# Altium schematic symbol library WR-HDMI.SchLib: 7 symbols
Pins are listed as number, name and electrical type; pins without a type are passive.

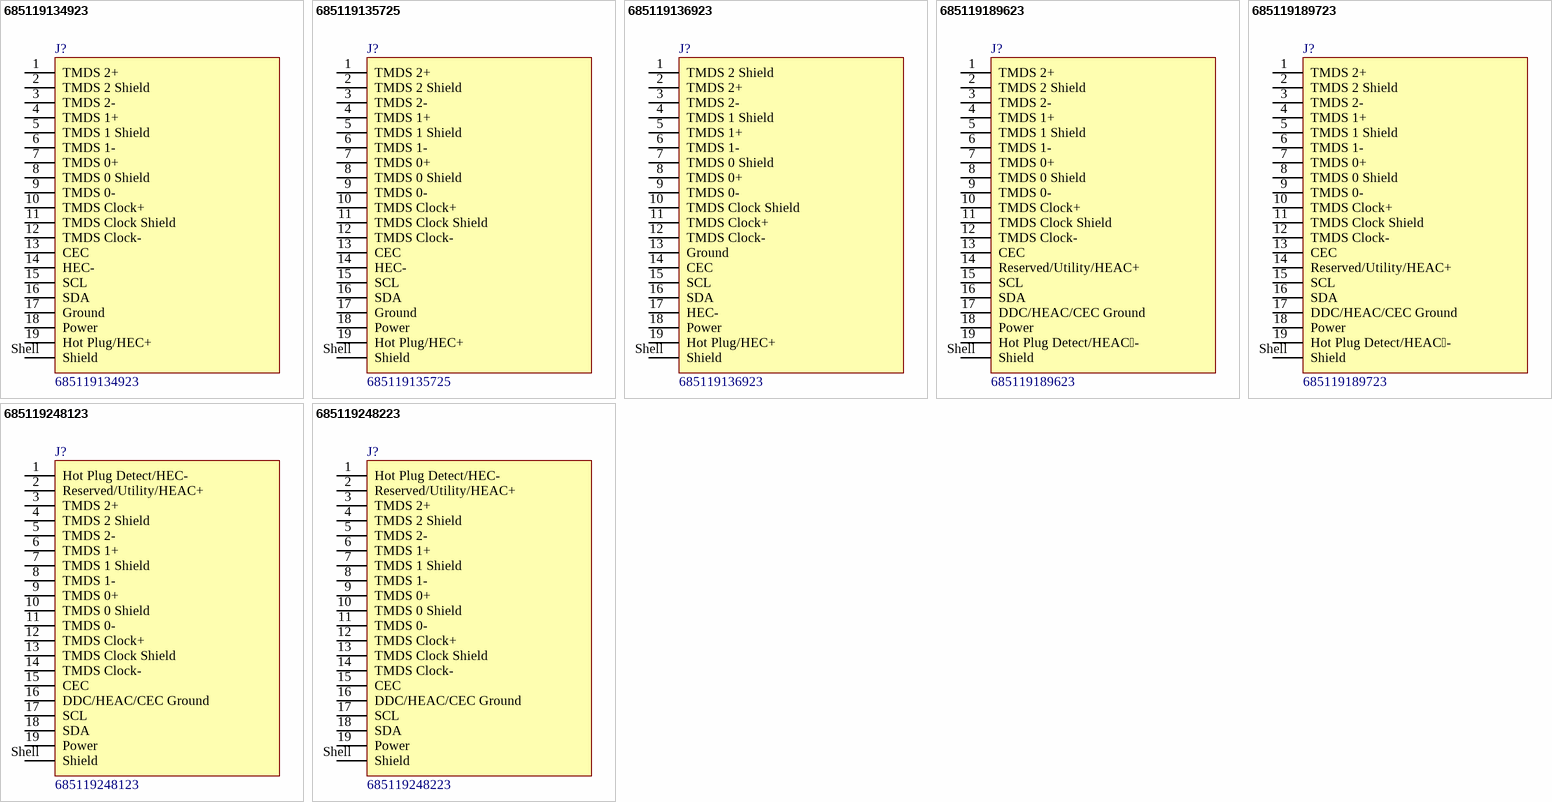
[diagram p0: symbols 685119134923 to 685119248223]

## 685119134923
designator J?
WR-COM HDMI Receptacle Horizontal; Manufacturer: Wurth Elektronik; Match Code: WR-HDMI; Working Voltage: 40V (AC); Manufacturer Part Number: 685119134923; Category: Input/Output Connector; ComponentLink1Description: Website Link; ComponentLink1URL: https://www.we-online.com/redexpert/article/685119134923?ad; ComponentLink2Description: Datasheet Link; ComponentLink2URL: https://www.we-online.com/redexpert/spec/685119134923?ad; Mount: Surface Mount; Min Operating Temperature: -25°C; Max Operating Temperature: 85°C; Packaging: Tape and Reel; Application: HDMI; Gender: Receptacle; Number of Pins: 19; Orientation: Horizontal
footprint 685119134923
pins: 1 TMDS 2+, 2 TMDS 2 Shield, 3 TMDS 2-, 4 TMDS 1+, 5 TMDS 1 Shield, 6 TMDS 1-, 7 TMDS 0+, 8 TMDS 0 Shield, 9 TMDS 0-, 10 TMDS Clock+, 11 TMDS Clock Shield, 12 TMDS Clock-, 13 CEC, 14 HEC-, 15 SCL, 16 SDA, 17 Ground, 18 Power, 19 Hot Plug/HEC+, Shell Shield

## 685119135725
designator J?
WR-COM HDMI Receptacle Horizontal; Manufacturer: Wurth Elektronik; Match Code: WR-HDMI; Working Voltage: 40V (AC); Manufacturer Part Number: 685119135725; Category: Input/Output Connector; ComponentLink1Description: Website Link; ComponentLink1URL: https://www.we-online.com/redexpert/article/685119135725?ad; ComponentLink2Description: Datasheet Link; ComponentLink2URL: https://www.we-online.com/redexpert/spec/685119135725?ad; Mount: Surface Mount; Min Operating Temperature: -25°C; Max Operating Temperature: 85°C; Packaging: Tray; Application: HDMI; Gender: Receptacle; Number of Pins: 19; Orientation: Horizontal
footprint 685119135725
pins: 1 TMDS 2+, 2 TMDS 2 Shield, 3 TMDS 2-, 4 TMDS 1+, 5 TMDS 1 Shield, 6 TMDS 1-, 7 TMDS 0+, 8 TMDS 0 Shield, 9 TMDS 0-, 10 TMDS Clock+, 11 TMDS Clock Shield, 12 TMDS Clock-, 13 CEC, 14 HEC-, 15 SCL, 16 SDA, 17 Ground, 18 Power, 19 Hot Plug/HEC+, Shell Shield

## 685119136923
designator J?
WR-COM Mini HDMI Receptacle Horizontal; Manufacturer: Wurth Elektronik; Match Code: WR-HDMI; Working Voltage: 40V (AC); Manufacturer Part Number: 685119136923; Category: Input/Output Connector; ComponentLink1Description: Website Link; ComponentLink1URL: https://www.we-online.com/redexpert/article/685119136923?ad; ComponentLink2Description: Datasheet Link; ComponentLink2URL: https://www.we-online.com/redexpert/spec/685119136923?ad; Mount: Surface Mount; Min Operating Temperature: -25°C; Max Operating Temperature: 85°C; Packaging: Tape and Reel; Application: Mini HDMI; Gender: Receptacle; Number of Pins: 19; Orientation: Horizontal
footprint 685119136923
pins: 1 TMDS 2 Shield, 2 TMDS 2+, 3 TMDS 2-, 4 TMDS 1 Shield, 5 TMDS 1+, 6 TMDS 1-, 7 TMDS 0 Shield, 8 TMDS 0+, 9 TMDS 0-, 10 TMDS Clock Shield, 11 TMDS Clock+, 12 TMDS Clock-, 13 Ground, 14 CEC, 15 SCL, 16 SDA, 17 HEC-, 18 Power, 19 Hot Plug/HEC+, Shell Shield

## 685119189623
designator J?
WR-COM HDMI 2.1 Receptacle Horizontal; Manufacturer: Wurth Elektronik; Match Code: WR-HDMI; Working Voltage: 40V (AC); Manufacturer Part Number: 685119189623; Category: Input/Output Connector; ComponentLink1Description: Website Link; ComponentLink1URL: https://www.we-online.com/redexpert/article/685119189623?ad; ComponentLink2Description: Datasheet Link; ComponentLink2URL: https://www.we-online.com/redexpert/spec/685119189623?ad; Mount: Surface Mount; Min Operating Temperature: -45°C; Max Operating Temperature: 85°C; Packaging: Tape and Reel; Application: HDMI 2.1; Gender: Receptacle; Number of Pins: 19; Orientation: Horizontal
footprint 685119189623
pins: 1 TMDS 2+, 2 TMDS 2 Shield, 3 TMDS 2-, 4 TMDS 1+, 5 TMDS 1 Shield, 6 TMDS 1-, 7 TMDS 0+, 8 TMDS 0 Shield, 9 TMDS 0-, 10 TMDS Clock+, 11 TMDS Clock Shield, 12 TMDS Clock-, 13 CEC, 14 Reserved/Utility/HEAC+, 15 SCL, 16 SDA, 17 DDC/HEAC/CEC Ground, 18 Power, 19 Hot Plug Detect/HEAC-, Shell Shield

## 685119189723
designator J?
WR-COM HDMI 2.1 Receptacle Horizontal; Manufacturer: Wurth Elektronik; Match Code: WR-HDMI; Working Voltage: 40V (AC); Manufacturer Part Number: 685119189723; Category: Input/Output Connector; ComponentLink1Description: Website Link; ComponentLink1URL: https://www.we-online.com/redexpert/article/685119189723?ad; ComponentLink2Description: Datasheet Link; ComponentLink2URL: https://www.we-online.com/redexpert/spec/685119189723?ad; Mount: Surface Mount; Min Operating Temperature: -45°C; Max Operating Temperature: 85°C; Packaging: Tape and Reel; Application: HDMI 2.1; Gender: Receptacle; Number of Pins: 19; Orientation: Horizontal
footprint 685119189723
pins: 1 TMDS 2+, 2 TMDS 2 Shield, 3 TMDS 2-, 4 TMDS 1+, 5 TMDS 1 Shield, 6 TMDS 1-, 7 TMDS 0+, 8 TMDS 0 Shield, 9 TMDS 0-, 10 TMDS Clock+, 11 TMDS Clock Shield, 12 TMDS Clock-, 13 CEC, 14 Reserved/Utility/HEAC+, 15 SCL, 16 SDA, 17 DDC/HEAC/CEC Ground, 18 Power, 19 Hot Plug Detect/HEAC-, Shell Shield

## 685119248123
designator J?
WR-COM Micro HDMI Receptacle Horizontal; Manufacturer: Wurth Elektronik; Match Code: WR-HDMI; Working Voltage: 40V (AC); Manufacturer Part Number: 685119248123; Category: Input/Output Connector; ComponentLink1Description: Website Link; ComponentLink1URL: https://www.we-online.com/redexpert/article/685119248123?ad; ComponentLink2Description: Datasheet Link; ComponentLink2URL: https://www.we-online.com/redexpert/spec/685119248123?ad; Mount: Surface Mount; Min Operating Temperature: -25°C; Max Operating Temperature: 85°C; Packaging: Tape and Reel; Application: Micro HDMI; Gender: Receptacle; Number of Pins: 19; Orientation: Horizontal
footprint 685119248123
pins: 1 Hot Plug Detect/HEC-, 2 Reserved/Utility/HEAC+, 3 TMDS 2+, 4 TMDS 2 Shield, 5 TMDS 2-, 6 TMDS 1+, 7 TMDS 1 Shield, 8 TMDS 1-, 9 TMDS 0+, 10 TMDS 0 Shield, 11 TMDS 0-, 12 TMDS Clock+, 13 TMDS Clock Shield, 14 TMDS Clock-, 15 CEC, 16 DDC/HEAC/CEC Ground, 17 SCL, 18 SDA, 19 Power, Shell Shield

## 685119248223
designator J?
WR-COM Micro HDMI Receptacle Horizontal; Manufacturer: Wurth Elektronik; Match Code: WR-HDMI; Working Voltage: 40V (AC); Manufacturer Part Number: 685119248223; Category: Input/Output Connector; ComponentLink1Description: Website Link; ComponentLink1URL: https://www.we-online.com/redexpert/article/685119248223?ad; ComponentLink2Description: Datasheet Link; ComponentLink2URL: https://www.we-online.com/redexpert/spec/685119248223?ad; Mount: Surface Mount; Min Operating Temperature: -25°C; Max Operating Temperature: 85°C; Packaging: Tape and Reel; Application: Micro HDMI; Gender: Receptacle; Number of Pins: 19; Orientation: Horizontal
footprint 685119248223
pins: 1 Hot Plug Detect/HEC-, 2 Reserved/Utility/HEAC+, 3 TMDS 2+, 4 TMDS 2 Shield, 5 TMDS 2-, 6 TMDS 1+, 7 TMDS 1 Shield, 8 TMDS 1-, 9 TMDS 0+, 10 TMDS 0 Shield, 11 TMDS 0-, 12 TMDS Clock+, 13 TMDS Clock Shield, 14 TMDS Clock-, 15 CEC, 16 DDC/HEAC/CEC Ground, 17 SCL, 18 SDA, 19 Power, Shell Shield